# Altium footprint library SC_SOT669.PcbLib: 1 footprints
Each footprint in its own frame and in the unit in brackets; x right, y up, seen from the top. Pads: shape width x height; smd on the part's side, far side on the other; paste and mask are expansions set on the pad; w line width, h text height; cw(c..) or ccw(c..) is an arc to the next point about the centre after c.
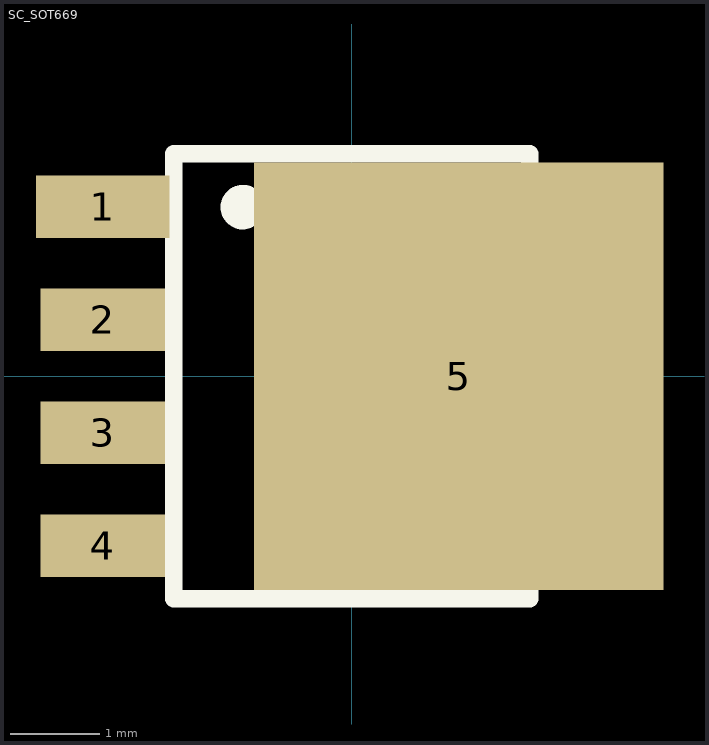
[diagram p0: the footprint, top view; thin cyan lines are the x and y axes]

## SC_SOT669 [mm] "SOT223, 5-Leads, Body 5.0x6.2mm (max), Pitch 1.27mm, IPC Medium Density"
height 1.2
pads (5):
  rect 1.5x0.7 smd: 1(-2.8,1.905)
  rect 1.4x0.7 smd: 2(-2.8,0.635) 3(-2.8,-0.635) 4(-2.8,-1.905)
  rect 4.6x4.8 smd: 5(1.2,0)
Top Overlay:
  circle w0.25: c-1.225,1.9 r0.125
  lines w0.2: -2,-2.5 2,-2.5 2,2.5 -2,2.5 -2,-2.5
3D body: height 1.2, standoff 0.02, extent -2.05,-2.5 2.05,2.5